# EAGLE library part ARDUINO_NANO_SHIELD (library ZemoteShield)
Shield form compatible with the Arduino Nano.
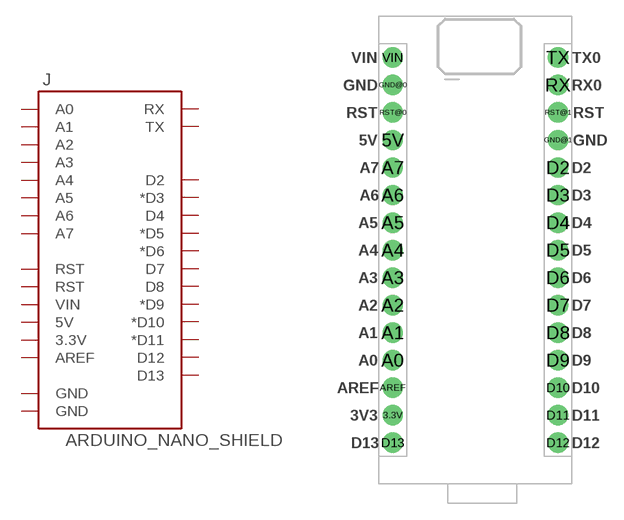
[diagram p0: symbol with the pads of NANO_SHIELD; footprint NANO_SHIELD]

Designator prefix J

## ARDUINO_NANO_SHIELD  [NANO_SHIELD]
3.3V  3.3V
5V  5V
A0  A0
A1  A1
A2  A2
A3  A3
A4  A4
A5  A5
A6  A6
A7  A7
AREF  AREF
D2  D2
D3  *D3
D4  D4
D5  *D5
D6  *D6
D7  D7
D8  D8
D9  *D9
D10  *D10
D11  *D11
D12  D12
D13  D13
GND@0  GND
GND@1  GND
RST@0  RST
RST@1  RST
RX  RX
TX  TX
VIN  VIN

## Footprint NANO_SHIELD (pad centres in mm)
Uno R3 Compatible Board Layout
drill 1.016 pad 1.88: 3.3V 1.27,6.35; 5V 1.27,31.75; A0 1.27,11.43; A1 1.27,13.97; A2 1.27,16.51; A3 1.27,19.05; A4 1.27,21.59; A5 1.27,24.13; A6 1.27,26.67; A7 1.27,29.21; AREF 1.27,8.89; D2 16.51,29.21; D3 16.51,26.67; D4 16.51,24.13; D5 16.51,21.59; D6 16.51,19.05; D7 16.51,16.51; D8 16.51,13.97; D9 16.51,11.43; D10 16.51,8.89; D11 16.51,6.35; D12 16.51,3.81; D13 1.27,3.81; GND@0 1.27,36.83; GND@1 16.51,31.75; RST@0 1.27,34.29; RST@1 16.51,34.29; RX 16.51,36.83; TX 16.51,39.37; VIN 1.27,39.37